# EAGLE library part DRV8301 (library r2p_ic)
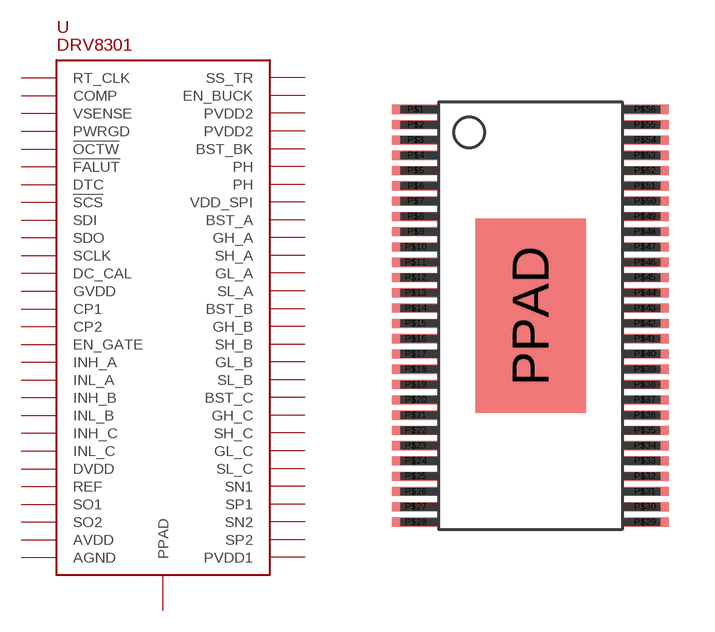
[diagram p5: symbol with the pads of HTSSOP56; footprint HTSSOP56]

Designator prefix U

## DRV8301  [HTSSOP56]
P$1  RT_CLK
P$2  COMP
P$3  VSENSE
P$4  PWRGD
P$5  !OCTW
P$6  !FALUT
P$7  DTC
P$8  !SCS
P$9  SDI
P$10  SDO
P$11  SCLK
P$12  DC_CAL
P$13  GVDD
P$14  CP1
P$15  CP2
P$16  EN_GATE
P$17  INH_A
P$18  INL_A
P$19  INH_B
P$20  INL_B
P$21  INH_C
P$22  INL_C
P$23  DVDD
P$24  REF
P$25  SO1
P$26  SO2
P$27  AVDD
P$28  AGND
P$29  PVDD1
P$30  SP2
P$31  SN2
P$32  SP1
P$33  SN1
P$34  SL_C
P$35  GL_C
P$36  SH_C
P$37  GH_C
P$38  BST_C
P$39  SL_B
P$40  GL_B
P$41  SH_B
P$42  GH_B
P$43  BST_B
P$44  SL_A
P$45  GL_A
P$46  SH_A
P$47  GH_A
P$48  BST_A
P$49  VDD_SPI
P$50  PH
P$51  PH
P$52  BST_BK
P$53  PVDD2
P$54  PVDD2
P$55  EN_BUCK
P$56  SS_TR
PPAD  PPAD

## Footprint HTSSOP56 (pad centres in mm)
smd 1.55 x 0.3: P$1 -3.75,7; P$2 -3.75,6.5; P$3 -3.75,6; P$4 -3.75,5.5; P$5 -3.75,5; P$6 -3.75,4.5; P$7 -3.75,4; P$8 -3.75,3.5; P$9 -3.75,3; P$10 -3.75,2.5; P$11 -3.75,2; P$12 -3.75,1.5; P$13 -3.75,1; P$14 -3.75,0.5; P$15 -3.75,0; P$16 -3.75,-0.5; P$17 -3.75,-1; P$18 -3.75,-1.5; P$19 -3.75,-2; P$20 -3.75,-2.5; P$21 -3.75,-3; P$22 -3.75,-3.5; P$23 -3.75,-4; P$24 -3.75,-4.5; P$25 -3.75,-5; P$26 -3.75,-5.5; P$27 -3.75,-6; P$28 -3.75,-6.5; P$29 3.75,-6.5; P$30 3.75,-6; P$31 3.75,-5.5; P$32 3.75,-5; P$33 3.75,-4.5; P$34 3.75,-4; P$35 3.75,-3.5; P$36 3.75,-3; P$37 3.75,-2.5; P$38 3.75,-2; P$39 3.75,-1.5; P$40 3.75,-1; P$41 3.75,-0.5; P$42 3.75,0; P$43 3.75,0.5; P$44 3.75,1; P$45 3.75,1.5; P$46 3.75,2; P$47 3.75,2.5; P$48 3.75,3; P$49 3.75,3.5; P$50 3.75,4; P$51 3.75,4.5; P$52 3.75,5; P$53 3.75,5.5; P$54 3.75,6; P$55 3.75,6.5; P$56 3.75,7
smd 3.61 x 6.35: PPAD 0,0.25